# Altium schematic symbol library SCH - FET - N-CH - MOSFET SINGLE GDS.SCHLIB: 1 symbol
Pins are listed as number, name and electrical type; pins without a type are passive.

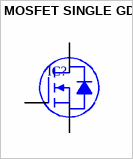
[diagram p0: symbol MOSFET SINGLE GDS]

## MOSFET SINGLE GDS
designator IC?
pins: D, G, S